# EAGLE library part IR2183 (library ic)
IR2183: Half.bridge driver (International Rectifier) 600V operation, 10V gate drive
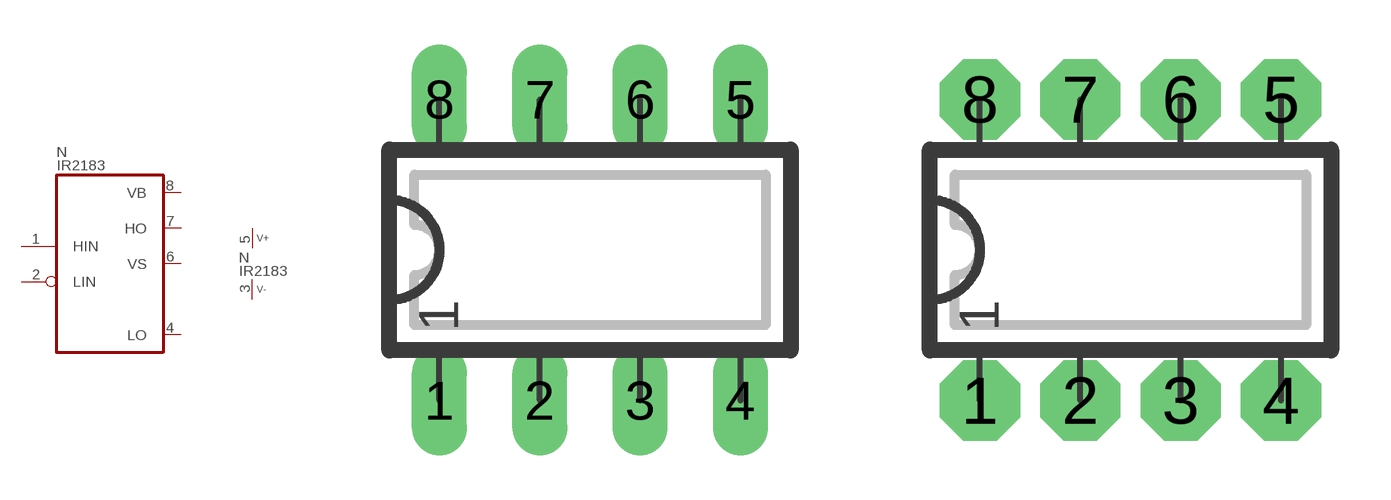
[diagram p107: symbol with the pads of DIP08L; footprints DIP08L, DIP08N]

Designator prefix N; gates  =IR2183 P=V+-

## IR2183  [DIP08L]
1   :HIN  in
2   :LIN  in
3  P:V-  pwr
4   :LO  out
5  P:V+  pwr
6   :VS  out
7   :HO  out
8   :VB  pwr

## IR2183L  [DIP08L]
Pads as for DIP08L

## IR2183N  [DIP08N]
Pads as for DIP08L

## IR2183R  [DIP08R]
Pads as for DIP08L

## Footprint DIP08L (pad centres in mm)
DIP-8, long pads Standard IC package, 8 pins
drill 0.813 pad 1.397 long: 1 -3.81,-3.81; 2 -1.27,-3.81; 3 1.27,-3.81; 4 3.81,-3.81; 5 3.81,3.81; 6 1.27,3.81; 7 -1.27,3.81; 8 -3.81,3.81

## Footprint DIP08N (pad centres in mm)
DIP-8 Standard IC package, 8 pins
drill 0.813 pad 2.032 octagon: 1 -3.81,-3.81; 2 -1.27,-3.81; 3 1.27,-3.81; 4 3.81,-3.81; 5 3.81,3.81; 6 1.27,3.81; 7 -1.27,3.81; 8 -3.81,3.81

## Footprint DIP08R (pad centres in mm)
DIP-8, reduced pads Standard IC package, 8 pins
drill 0.813 pad 1.397 square: 1 -3.81,-3.81; 2 -1.27,-3.81; 3 1.27,-3.81; 4 3.81,-3.81; 5 3.81,3.81; 6 1.27,3.81; 7 -1.27,3.81; 8 -3.81,3.81